# EAGLE library part 3S1000 (library xess)
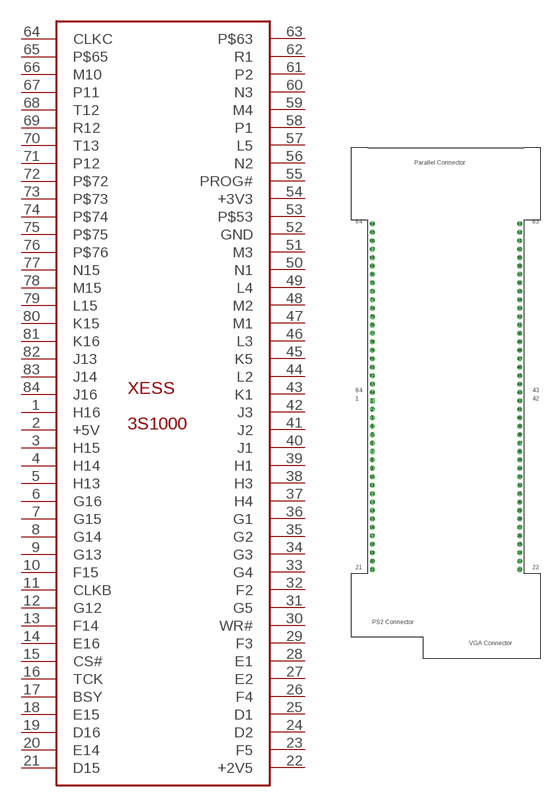
[diagram p0: symbol with the pads of 3S1000; footprint 3S1000]

Designator prefix XESS

## 3S1000  [3S1000]
1  H16
2  +5V  pwr
3  H15
4  H14
5  H13
6  G16
7  G15
8  G14
9  G13
10  F15
11  CLKB
12  G12
13  F14
14  E16
15  CS#
16  TCK
17  BSY
18  E15
19  D16
20  E14
21  D15
22  +2V5  pwr
23  F5
24  D2
25  D1
26  F4
27  E2
28  E1
29  F3
30  WR#
31  G5
32  F2
33  G4
34  G3
35  G2
36  G1
37  H4
38  H3
39  H1
40  J1
41  J2
42  J3
43  K1
44  L2
45  K5
46  L3
47  M1
48  M2
49  L4
50  N1
51  M3
52  GND  pwr
53  P$53
54  +3V3  pwr
55  PROG#
56  N2
57  L5
58  P1
59  M4
60  N3
61  P2
62  R1
63  P$63
64  CLKC
65  P$65
66  M10
67  P11
68  T12
69  R12
70  T13
71  P12
72  P$72
73  P$73
74  P$74
75  P$75
76  P$76
77  N15
78  M15
79  L15
80  K15
81  K16
82  J13
83  J14
84  J16

## Footprint 3S1000 (pad centres in mm)
drill 1.016 square: 1 0,0
drill 1.016: 2 0,-2.54; 3 0,-5.08; 4 0,-7.62; 5 0,-10.16; 6 0,-12.7; 7 0,-15.24; 8 0,-17.78; 9 0,-20.32; 10 0,-22.86; 11 0,-25.4; 12 0,-27.94; 13 0,-30.48; 14 0,-33.02; 15 0,-35.56; 16 0,-38.1; 17 0,-40.64; 18 0,-43.18; 19 0,-45.72; 20 0,-48.26; 21 0,-50.8; 22 44.45,-50.8; 23 44.45,-48.26; 24 44.45,-45.72; 25 44.45,-43.18; 26 44.45,-40.64; 27 44.45,-38.1; 28 44.45,-35.56; 29 44.45,-33.02; 30 44.45,-30.48; 31 44.45,-27.94; 32 44.45,-25.4; 33 44.45,-22.86; 34 44.45,-20.32; 35 44.45,-17.78; 36 44.45,-15.24; 37 44.45,-12.7; 38 44.45,-10.16; 39 44.45,-7.62; 40 44.45,-5.08; 41 44.45,-2.54; 42 44.45,0; 43 44.45,2.54; 44 44.45,5.08; 45 44.45,7.62; 46 44.45,10.16; 47 44.45,12.7; 48 44.45,15.24; 49 44.45,17.78; 50 44.45,20.32; 51 44.45,22.86; 52 44.45,25.4; 53 44.45,27.94; 54 44.45,30.48; 55 44.45,33.02; 56 44.45,35.56; 57 44.45,38.1; 58 44.45,40.64; 59 44.45,43.18; 60 44.45,45.72; 61 44.45,48.26; 62 44.45,50.8; 63 44.45,53.34; 64 0,53.34; 65 0,50.8; 66 0,48.26; 67 0,45.72; 68 0,43.18; 69 0,40.64; 70 0,38.1; 71 0,35.56; 72 0,33.02; 73 0,30.48; 74 0,27.94; 75 0,25.4; 76 0,22.86; 77 0,20.32; 78 0,17.78; 79 0,15.24; 80 0,12.7; 81 0,10.16; 82 0,7.62; 83 0,5.08; 84 0,2.54